# Altium schematic symbol library MOSFET,N Ch,100V,150mA.Schlib: 1 symbol
Pins are listed as number, name and electrical type; pins without a type are passive.

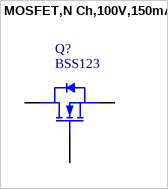
[diagram p0: symbol MOSFET,N Ch,100V,150mA]

## MOSFET,N Ch,100V,150mA
designator Q?, comment BSS123
N-Channel 100V 150mA (Ta) 250mW (Ta) Surface Mount TO-236AB
pins: 1 G, 2 S, 3 D